# Altium footprint library WE-SL.PcbLib: 1 footprints
Each footprint in its own frame and in the unit in brackets; x right, y up, seen from the top. Pads: shape width x height; smd on the part's side, far side on the other; paste and mask are expansions set on the pad; w line width, h text height; cw(c..) or ccw(c..) is an arc to the next point about the centre after c.
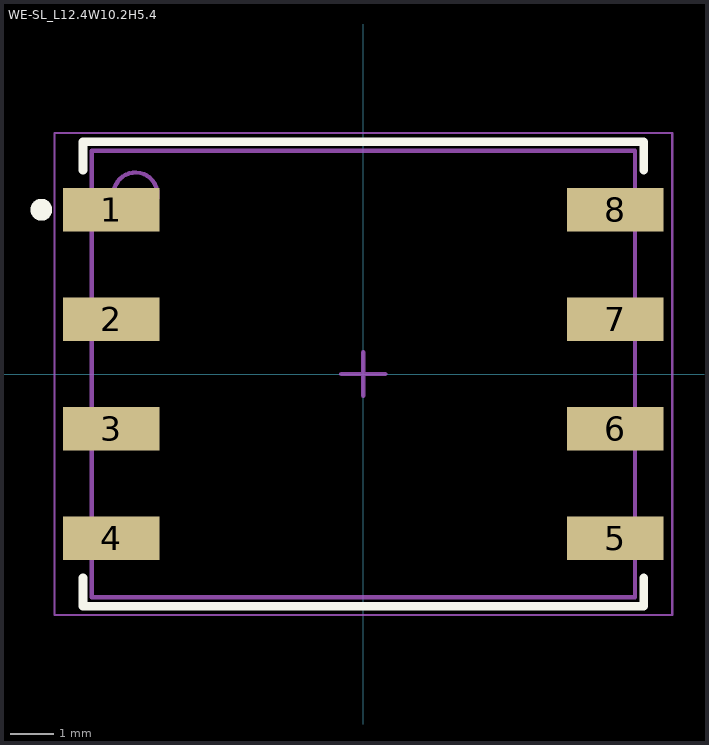
[diagram p0: the footprint, top view; thin cyan lines are the x and y axes]

## WE-SL_L12.4W10.2H5.4 [mm] "SMD Common Mode Line  Filter, 8-leads, body 12.4x10.2mm"
height 5.4
pads (8):
  rect 2.2x1 smd: 1(-5.75,3.75) 2(-5.75,1.25) 3(-5.75,-1.25) 4(-5.75,-3.75) 5(5.75,-3.75) 6(5.75,-1.25) 7(5.75,1.25) 8(5.75,3.75)
Top Overlay:
  circle w0.25: c-7.35,3.75 r0.125
  lines w0.2: -6.4,-4.65 -6.4,-5.3 6.4,-5.3 6.4,-4.65 ; -6.4,4.65 -6.4,5.3 6.4,5.3 6.4,4.65
Top Assembly:
  circle w0.1: c-5.2,4.1 r0.5
  lines w0.1: -6.2,-5.1 6.2,-5.1 6.2,5.1 -6.2,5.1 -6.2,-5.1
Top Designator:
  text ".Designator" at -3.647,-0.357 h1
Top 3D Body:
  circle w0.1: c-5.2,4.1 r0.5
  lines w0.1: -6.2,-5.1 -6.2,5.1 6.2,5.1 6.2,-5.1 -6.2,-5.1
Top Courtyard:
  lines w0.05: -7.05,-5.5 7.05,-5.5 7.05,5.5 -7.05,5.5 -7.05,-5.5
Top Component Center:
  lines w0.1: -0.5,0 0.5,0 ; 0,-0.5 0,0.5
3D body "74420xx.stp": height 5.4, standoff 0, extent -6.5,-5.1 6.5,5.1